# EAGLE library part BC847BS-7-F (library diodes-inc-e14)
TRANSISTOR
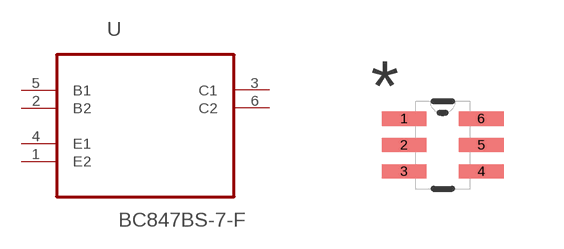
[diagram p17: symbol with the pads of SOT65P210X110-6N; footprint SOT65P210X110-6N]

Designator prefix U

## BC847BS-7-F (MPN: BC847BS-7-F; OC_FARNELL: 1773587; OC_NEWARK: 51R6392; PACKAGE: SOT-563-6; SUPPLIER: Diodes Inc)  [SOT65P210X110-6N]
1  E2  pas
2  B2  pas
3  C1  pas
4  E1  pas
5  B1  pas
6  C2  pas

## Footprint SOT65P210X110-6N (pad centres in mm)
smd 1.118 x 0.356: 1 -0.965,0.66; 2 -0.965,0; 3 -0.965,-0.66; 4 0.965,-0.66; 5 0.965,0; 6 0.965,0.66